# Altium footprint library 66200221022.PcbLib: 1 footprints
Each footprint in its own frame and in the unit in brackets; x right, y up, seen from the top. Pads: shape width x height; smd on the part's side, far side on the other; paste and mask are expansions set on the pad; w line width, h text height; cw(c..) or ccw(c..) is an arc to the next point about the centre after c.
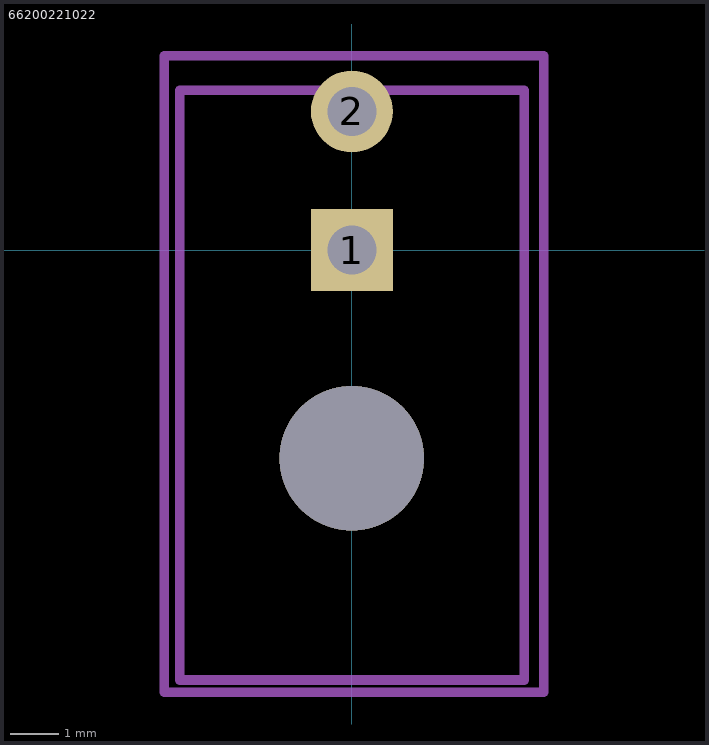
[diagram p0: the footprint, top view; thin cyan lines are the x and y axes]

## 66200221022 [mm] "Molex Micro-Fit 3.0 1x2"
pads (2):
  rect 1.7x1.7 hole 1.02: 1(0,0)
  round 1.7 hole 1.02: 2(0,2.88)
via 0,-4.32 diameter 3 hole 3
Assembly Top:
  lines w0.2: -3.575,-8.92 -3.575,3.32 3.575,3.32 3.575,-8.92 -3.575,-8.92
Courtyard Top:
  lines w0.2: -3.892,-9.174 -3.892,4.034 3.982,4.034 3.982,-9.174 -3.892,-9.174
3D body "66200221022 (rev1).stp": height 8.79, standoff -3.17, extent -3.35,-9.02 3.35,3.2